# Altium footprint library 1N5824.PcbLib: 1 footprints
Each footprint in its own frame and in the unit in brackets; x right, y up, seen from the top. Pads: shape width x height; smd on the part's side, far side on the other; paste and mask are expansions set on the pad; w line width, h text height; cw(c..) or ccw(c..) is an arc to the next point about the centre after c.
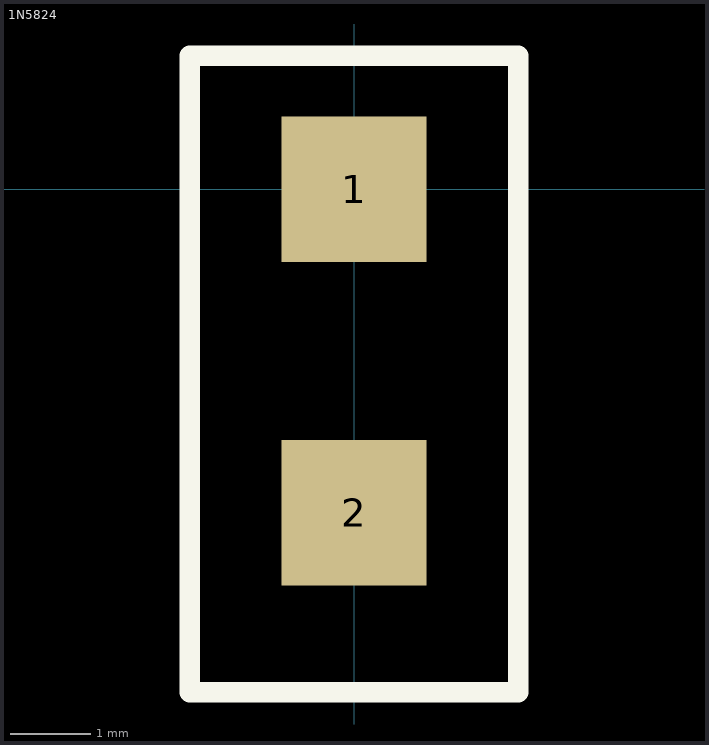
[diagram p0: the footprint, top view; thin cyan lines are the x and y axes]

## 1N5824 [mm]
pads (2):
  rect 1.8x1.8 smd: 1(0,0) 2(0,-4)
Top Overlay:
  lines w0.254: -2.032,-6.223 2.032,-6.223 2.032,1.651 -2.032,1.651 -2.032,-6.223
3D body "D0214ACSMA.step": height 1.96, standoff -0.33, extent -1.397,-4.775 1.397,0.711